# EAGLE library part 750340681 (library Wurth Electronics Midcom Inc V1-0)
Package Style: Non-Standard PQ2020 Mounting: THT Pins: 14 Bobbin: 070-5250 Windings Primary: 125-275VDC, 30-40kHz Secondary: 45-50VDC, 1.5A Best pinouts for production vary per application. Please contact Wurth Electronics Midcom, Inc. for assistance with your custom design. Datasheet: 750340681 <http://www.we-online.com/web/en/index.php/show/media/06_passive_components_-_custom_magnetics/pdf_doc_files/spec_sheets/7503/750340681.pdf> Website: Wurth Electronics Midcom <http://www.we-online.com/midcom> Contact us Wurth Electronics Midcom, Inc. 121 Airport Dr. Watertown, SD 57201 Phone: (605) 886-4385 Fax: (605) 886-4486 E-Mail: midcom@we-online.com
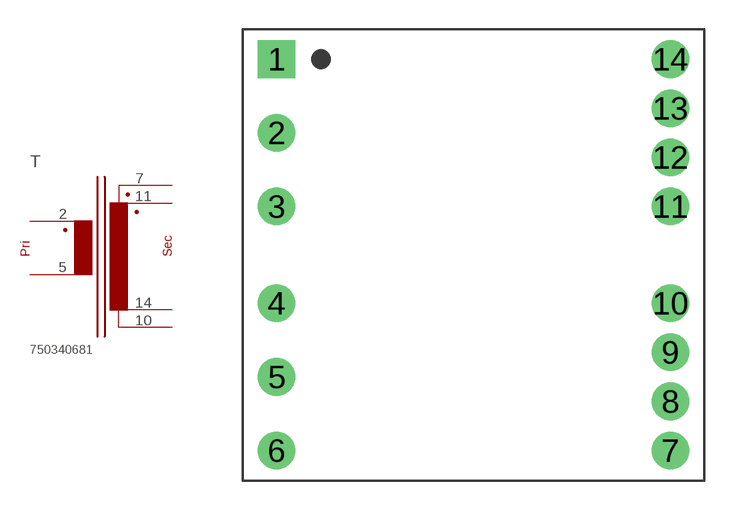
[diagram p175: symbol with the pads of 99NONSTANDARD_PQ2020_THT_V_14PIN; footprint 99NONSTANDARD_PQ2020_THT_V_14PIN]

Designator prefix T

## 750340681  [99NONSTANDARD_PQ2020_THT_V_14PIN]
2  1  pas
5  2  pas
7  3  pas
10  4  pas
11  5  pas
14  6  pas

## Footprint 99NONSTANDARD_PQ2020_THT_V_14PIN (pad centres in mm)
Package Style: Speedy PQ2020 Mounting: THT Pins: 14 pins Bobbin: 070-5250
drill 1.295 square: 1 -10.173,10.122
drill 1.295 round: 2 -10.173,6.312; 3 -10.173,2.502; 4 -10.173,-2.502; 5 -10.173,-6.312; 6 -10.173,-10.122; 7 10.173,-10.122; 8 10.173,-7.582; 9 10.173,-5.042; 10 10.173,-2.502; 11 10.173,2.502; 12 10.173,5.042; 13 10.173,7.582; 14 10.173,10.122